# EAGLE library part DS3231S_DS3231S (library RTC-mezzanine)
Check prices <https://pricing.snapeda.com/parts/DS3231S/Maxim%20Integrated/view-part?ref=eda>
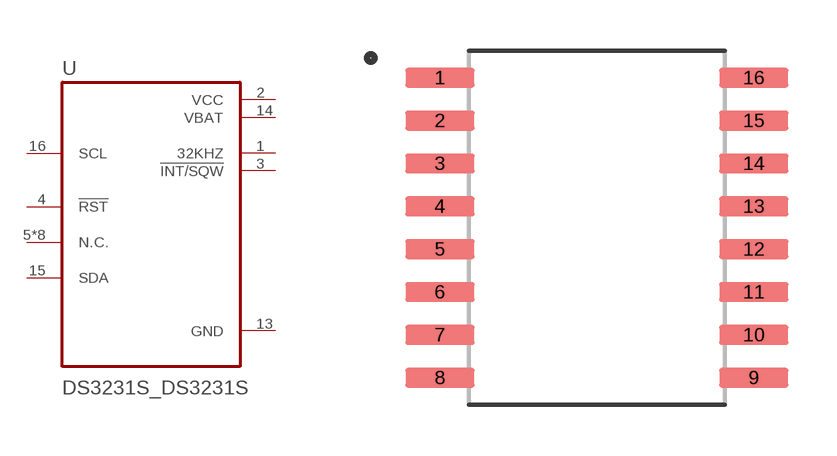
[diagram p1: symbol with the pads of DS3231S_SOIC127P1032X265-16N; footprint DS3231S_SOIC127P1032X265-16N]

Designator prefix U

## DS3231S_DS3231S (AVAILABILITY: Warning; DESCRIPTION: Real Time Clock (RTC) IC Clock/Calendar I²C, 2-Wire Serial 16-SOIC (0.295, 7.50mm Width); MF: Maxim Integrated; MP: DS3231S; PACKAGE: SOIC-16 Maxim Integrated; PRICE: None; PURCHASE-URL: https://pricing.snapeda.com/search/part/DS3231S/?ref=eda)  [DS3231S_SOIC127P1032X265-16N]
1  32KHZ  out
2  VCC  pwr
3  !INT/SQW  out
4  !RST
5  N.C.
6  N.C.
7  N.C.
8  N.C.
9  N.C.
10  N.C.
11  N.C.
12  N.C.
13  GND  pwr
14  VBAT  pwr
15  SDA
16  SCL  in

## Footprint DS3231S_SOIC127P1032X265-16N (pad centres in mm)
smd 2.05 x 0.59: 1 -4.655,4.445; 2 -4.655,3.175; 3 -4.655,1.905; 4 -4.655,0.635; 5 -4.655,-0.635; 6 -4.655,-1.905; 7 -4.655,-3.175; 8 -4.655,-4.445; 9 4.655,-4.445; 10 4.655,-3.175; 11 4.655,-1.905; 12 4.655,-0.635; 13 4.655,0.635; 14 4.655,1.905; 15 4.655,3.175; 16 4.655,4.445